# Altium footprint library 1kR 3v3LDO.PcbLib: 4 footprints
Each footprint in its own frame and in the unit in brackets; x right, y up, seen from the top. Pads: shape width x height; smd on the part's side, far side on the other; paste and mask are expansions set on the pad; w line width, h text height; cw(c..) or ccw(c..) is an arc to the next point about the centre after c.
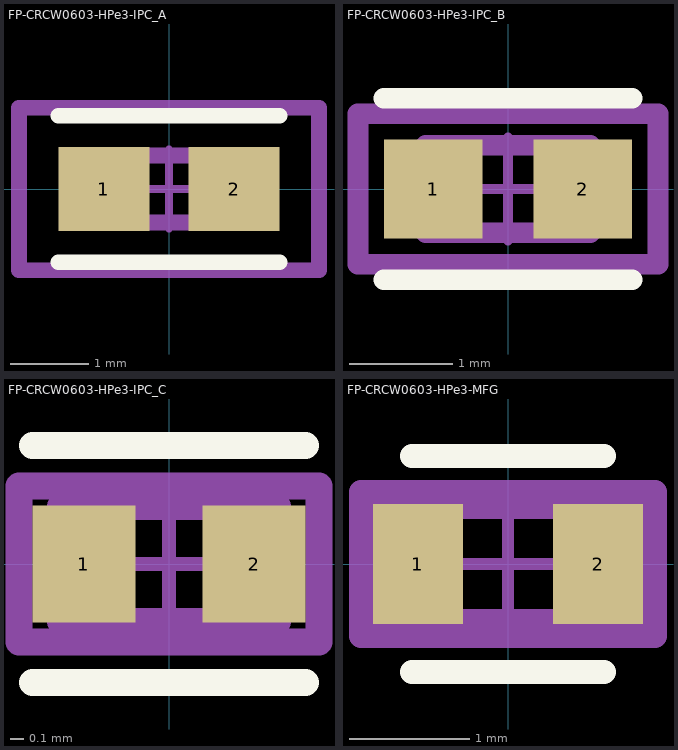
[diagram p0: the footprints below, top view; thin cyan lines are the x and y axes]

## FP-CRCW0603-HPe3-IPC_A [mm]
pads (2):
  rect 1.158x1.062 smd paste+0 mask+0: 1(-0.827,0) 2(0.827,0)
Top Overlay:
  lines w0.2: -1.406,-0.931 1.406,-0.931 ; -1.406,0.931 1.406,0.931
Top Assembly:
  lines w0.2: -1.906,-1.031 1.906,-1.031 1.906,1.031 -1.906,1.031 -1.906,-1.031
  text ".Designator" at 0,0.188 h1
Top 3D Body:
  lines w0.2: -0.8,-0.425 0.8,-0.425 0.8,0.425 -0.8,0.425 -0.8,-0.425
Top Courtyard:
  lines w0.2: -1.906,-1.031 1.906,-1.031 1.906,1.031 -1.906,1.031 -1.906,-1.031
Top Component Center:
  lines w0.1: -0.5,0 0.5,0 ; 0,-0.5 0,0.5
3D body "Res_Vishay_CRCW06031K00FKEAHP_eec.STEP": height 0.25, standoff 0, extent -1.906,-1.031 1.906,1.031

## FP-CRCW0603-HPe3-IPC_B [mm]
pads (2):
  rect 0.958x0.962 smd paste+0 mask+0: 1(-0.727,0) 2(0.727,0)
Top Overlay:
  lines w0.2: -1.206,-0.881 1.206,-0.881 ; -1.206,0.881 1.206,0.881
Top Assembly:
  lines w0.2: -1.456,-0.731 1.456,-0.731 1.456,0.731 -1.456,0.731 -1.456,-0.731
  text ".Designator" at 0,0.188 h1
Top 3D Body:
  lines w0.2: -0.8,-0.425 0.8,-0.425 0.8,0.425 -0.8,0.425 -0.8,-0.425
Top Courtyard:
  lines w0.2: -1.456,-0.731 1.456,-0.731 1.456,0.731 -1.456,0.731 -1.456,-0.731
Top Component Center:
  lines w0.1: -0.5,0 0.5,0 ; 0,-0.5 0,0.5
3D body "Res_Vishay_CRCW06031K00FKEAHP_eec.STEP": height 0.25, standoff 0, extent -1.456,-0.731 1.456,0.731

## FP-CRCW0603-HPe3-IPC_C [mm]
pads (2):
  rect 0.758x0.862 smd paste+0 mask+0: 1(-0.627,0) 2(0.627,0)
Top Overlay:
  lines w0.2: -1.006,-0.875 1.006,-0.875 ; -1.006,0.875 1.006,0.875
Top Assembly:
  lines w0.2: -1.106,-0.575 1.106,-0.575 1.106,0.575 -1.106,0.575 -1.106,-0.575
  text ".Designator" at 0,0.188 h1
Top 3D Body:
  lines w0.2: -0.8,-0.425 0.8,-0.425 0.8,0.425 -0.8,0.425 -0.8,-0.425
Top Courtyard:
  lines w0.2: -1.106,-0.575 1.106,-0.575 1.106,0.575 -1.106,0.575 -1.106,-0.575
Top Component Center:
  lines w0.1: -0.5,0 0.5,0 ; 0,-0.5 0,0.5
3D body "Res_Vishay_CRCW06031K00FKEAHP_eec.STEP": height 0.25, standoff 0, extent -1.106,-0.575 1.106,0.575

## FP-CRCW0603-HPe3-MFG [mm]
pads (2):
  rect 0.75x1 smd paste+0 mask+0: 1(-0.75,0) 2(0.75,0)
Top Overlay:
  lines w0.2: -0.8,-0.9 0.8,-0.9 ; -0.8,0.9 0.8,0.9
Top Assembly:
  lines w0.2: -1.225,-0.6 1.225,-0.6 1.225,0.6 -1.225,0.6 -1.225,-0.6
  text ".Designator" at 0,0.188 h1
Top 3D Body:
  lines w0.2: -0.85,-0.475 0.85,-0.475 0.85,0.475 -0.85,0.475 -0.85,-0.475
Top Courtyard:
  lines w0.2: -1.225,-0.6 1.225,-0.6 1.225,0.6 -1.225,0.6 -1.225,-0.6
Top Component Center:
  lines w0.1: -0.5,0 0.5,0 ; 0,-0.5 0,0.5
3D body "Res_Vishay_CRCW06031K00FKEAHP_eec.STEP": height 0.25, standoff 0, extent -1.225,-0.6 1.225,0.6